# Altium footprint library LED.PcbLib: 1 footprints
Each footprint in its own frame and in the unit in brackets; x right, y up, seen from the top. Pads: shape width x height; smd on the part's side, far side on the other; paste and mask are expansions set on the pad; w line width, h text height; cw(c..) or ccw(c..) is an arc to the next point about the centre after c.
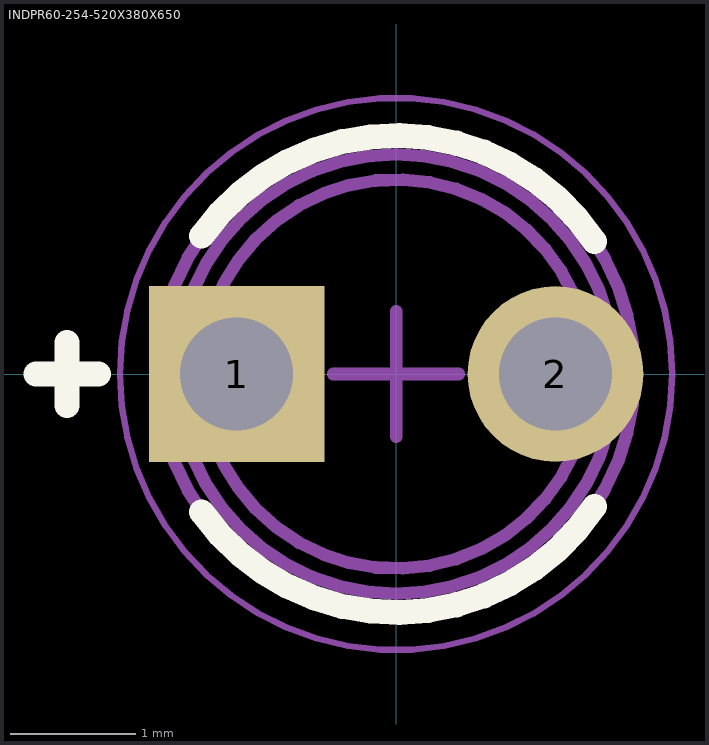
[diagram p0: the footprint, top view; thin cyan lines are the x and y axes]

## INDPR60-254-520X380X650 [mm] "THD, 2-Leads, Dia 3.8mm, Pitch 2.54mm"
height 6.5
pads (2):
  rect 1.4x1.4 hole 0.9: 1(-1.27,0)
  round 1.4 hole 0.9: 2(1.27,0)
Top Overlay:
  lines w0.2: -2.87,0 -2.37,0 ; -2.62,-0.25 -2.62,0.25 ; -1.549,-1.1 ccw(c0,0) 1.58,-1.056 ; -1.549,1.1 cw(c0,0) 1.58,1.056
Mechanical 13:
  circle w0.1: c0,0 r1.75
  circle w0.1: c0,0 r1.55
  circle w0.1: c0,0 r1.9
Mechanical 15:
  circle w0.05: c0,0 r2.2
  lines w0.1: -0.5,0 0.5,0 ; 0,-0.5 0,0.5
3D body: height 6.5, standoff 1, extent -1.549,-1.549 1.549,1.549
3D body: height 1.7, standoff 1, extent -1.899,-1.899 1.899,1.899
3D body: height 2.1, standoff 1, extent -1.75,-1.75 1.749,1.749